# Altium schematic symbol library lm1875.SchLib: 14 symbols
Pins are listed as number, name and electrical type; pins without a type are passive.

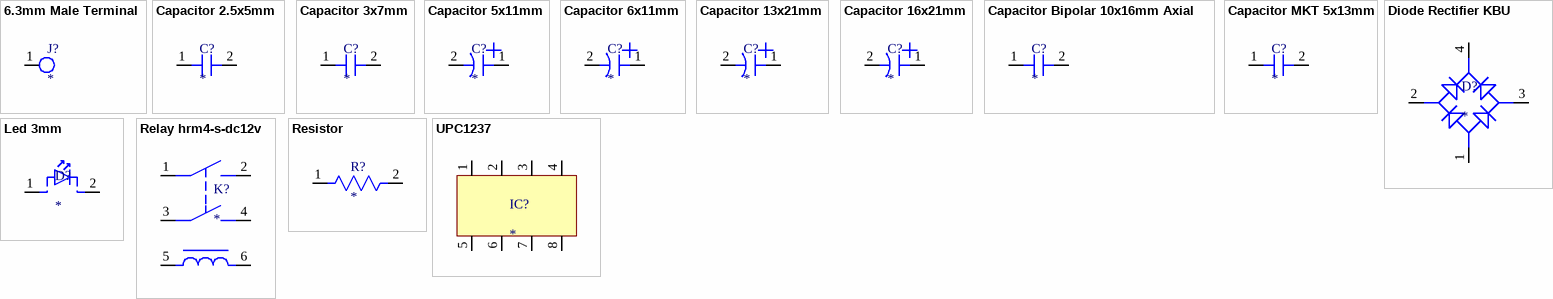
[diagram p0: symbols 6.3mm Male Terminal to UPC1237]

## 6.3mm Male Terminal
designator J?
footprint Terminal 6.3mm male
pins: 1

## Capacitor 2.5x5mm
designator C?
footprint Capacitor 2.5x5mm
pins: 1, 2

## Capacitor 3x7mm
designator C?
footprint Capacitor 3x7mm
pins: 1, 2

## Capacitor 5x11mm
designator C?
footprint Capacitor 5x11mm
pins: 1, 2

## Capacitor 6x11mm
designator C?
footprint Capacitor 6x11mm
pins: 1, 2

## Capacitor 13x21mm
designator C?
footprint Capacitor 13x21mm
pins: 1, 2

## Capacitor 16x21mm
designator C?
footprint Capacitor electrolytic 16x21mm
pins: 1, 2

## Capacitor Bipolar 10x16mm Axial
designator C?
footprint Capacitor Bipolar 10x16mm Axial
pins: 1, 2

## Capacitor MKT 5x13mm
designator C?
footprint Capacitor MKT 5x13mm
pins: 1, 2

## Diode Rectifier KBU
designator D?
footprint KBU Rectifier
pins: 1, 2, 3, 4

## Led 3mm
designator D?
footprint led 3mm
footprint Led 3mm Connector
pins: 1, 2

## Relay hrm4-s-dc12v
designator K?
footprint Relay hrm4-s-dc12v
pins: 1, 2, 3, 4, 5, 6

## Resistor
designator R?
footprint Resistor 1W
footprint Resistor 1W Vertical
footprint Resistor 0207 1/4W
footprint Resistor 0207 1/4W wide legs
pins: 1, 2

## UPC1237
designator IC?
footprint SIP 8 PIN
pins: 1, 2, 3, 4, 5, 6, 7, 8